# Altium footprint library WiDSO.PcbLib: 33 footprints (part 3 of 3)
Each footprint in its own frame and in the unit in brackets; x right, y up, seen from the top. Pads: shape width x height; smd on the part's side, far side on the other; paste and mask are expansions set on the pad; w line width, h text height; cw(c..) or ccw(c..) is an arc to the next point about the centre after c.
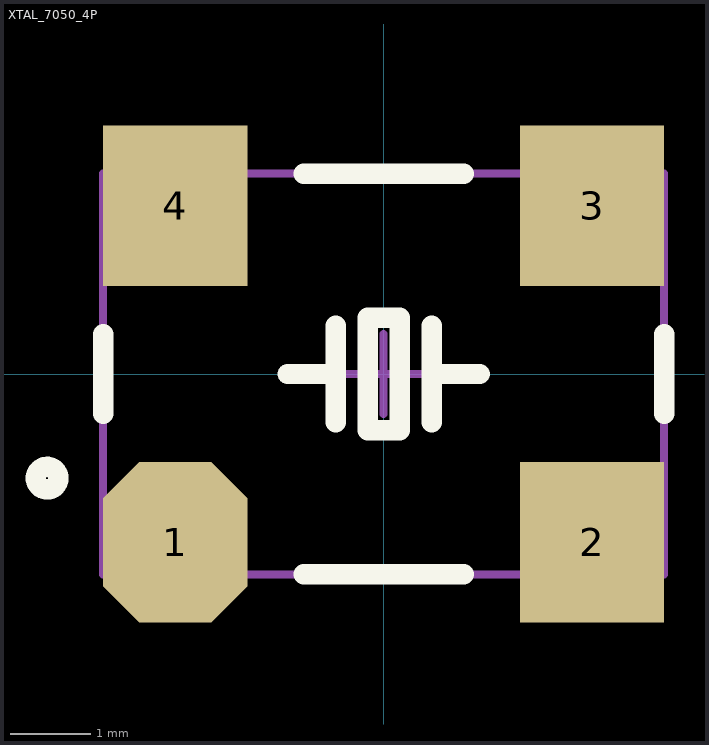
[diagram p2: the footprint, top view; thin cyan lines are the x and y axes]

## XTAL_7050_4P [mm] "4脚7mm*5mm贴片晶振"
pads (4):
  oct 1.8x2 smd: 1(-2.6,-2.1)
  rect 1.8x2 smd: 2(2.6,-2.1) 3(2.6,2.1) 4(-2.6,2.1)
Top Overlay:
  circle w0.254: c-4.2,-1.3 r0.141
  lines w0.254: -3.5,-0.5 -3.5,0.5 ; -1.2,0 -0.6,0 ; -1,-2.5 1,-2.5 ; -1,2.5 1,2.5 ; -0.6,-0.6 -0.6,0.6 ; 0.6,-0.6 0.6,0.6 ; 0.6,0 1.2,0 ; 3.5,-0.5 3.5,0.5 ; -0.2,-0.7 0.2,-0.7 0.2,0.7 -0.2,0.7 -0.2,-0.7
Mechanical 13:
  lines w0.1: -3.5,-2.5 3.5,-2.5 3.5,2.5 -3.5,2.5 -3.5,-2.5
Mechanical 15:
  lines w0.1: -0.5,0 0.5,0 ; 0,-0.5 0,0.5
3D body: height 1.4, standoff 0, extent -3.5,-2.5 3.5,2.5